# Altium footprint library Misc.PcbLib: 3 footprints
Each footprint in its own frame and in the unit in brackets; x right, y up, seen from the top. Pads: shape width x height; smd on the part's side, far side on the other; paste and mask are expansions set on the pad; w line width, h text height; cw(c..) or ccw(c..) is an arc to the next point about the centre after c.
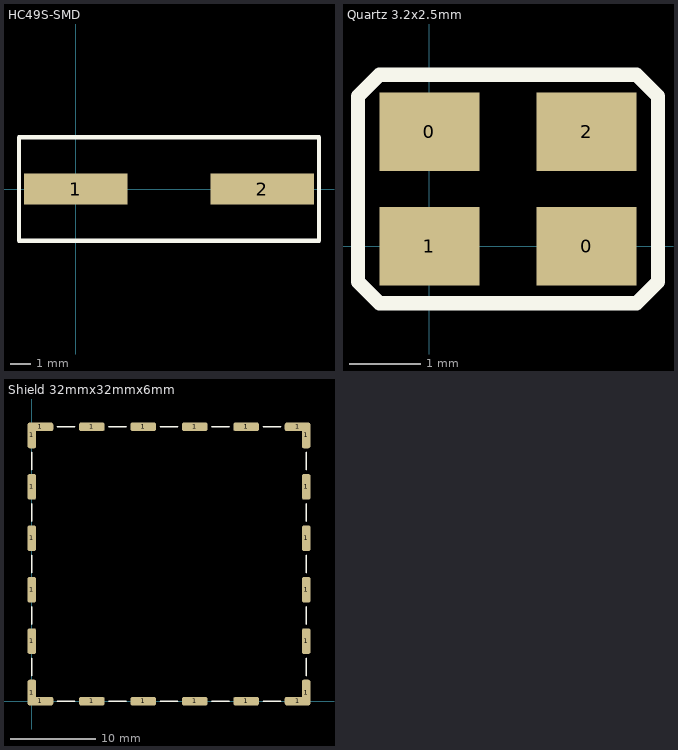
[diagram p0: the footprints below, top view; thin cyan lines are the x and y axes]

## HC49S-SMD [mm]
height 4.3
pads (2):
  rect 5x1.5 smd: 1(0,0) 2(9,0)
Top Overlay:
  lines w0.2: -2.75,-2.5 -2.75,2.5 11.75,2.5 11.75,-2.5 -2.75,-2.5
3D body "User Library-HC49S-SMD.step": height 4.4, standoff 0, extent -2.2,-2.45 11.2,2.45

## Quartz 3.2x2.5mm [mm]
height 0.6
pads (4):
  rect 1.4x1.1 smd: 0(0,1.6) 0(2.2,0) 1(0,0) 2(2.2,1.6)
Top Overlay:
  lines w0.2: -1,-0.5 -0.7,-0.8 2.9,-0.8 3.2,-0.5 3.2,2.1 2.9,2.4 -0.7,2.4 -1,2.1 -1,-0.4 -1,-0.5
3D body "User Library-ABRACON_ASE.step": height 0.55, standoff -0.49, extent -0.6,-0.55 2.8,2.15

## Shield 32mmx32mmx6mm [mm]
height 6
pads (24):
  rrect50% 1x3 smd: 1(0,1) 1(0,7) 1(0,13) 1(0,19) 1(0,25) 1(0,31) 1(32,1) 1(32,7) 1(32,13) 1(32,19) 1(32,25) 1(32,31)
  rrect50% 3x1 smd: 1(1,0) 1(1,32) 1(7,0) 1(7,32) 1(13,0) 1(13,32) 1(19,0) 1(19,32) 1(25,0) 1(25,32) 1(31,0) 1(31,32)
Top Overlay:
  lines w0.2: 0,3 0,5 ; 0,9 0,11 ; 0,15 0,17 ; 0,21 0,23 ; 0,27 0,29 ; 3,0 5,0 ; 3,32 5,32 ; 9,0 11,0 ; 9,32 11,32 ; 15,0 17,0 ; 15,32 17,32 ; 21,0 23,0 ; 21,32 23,32 ; 27,0 29,0 ; 27,32 29,32 ; 32,3 32,5 ; 32,9 32,11 ; 32,15 32,17 ; 32,21 32,23 ; 32,27 32,29